# EAGLE library part LTC-4724JR (library 0000 - @rsandor parts)
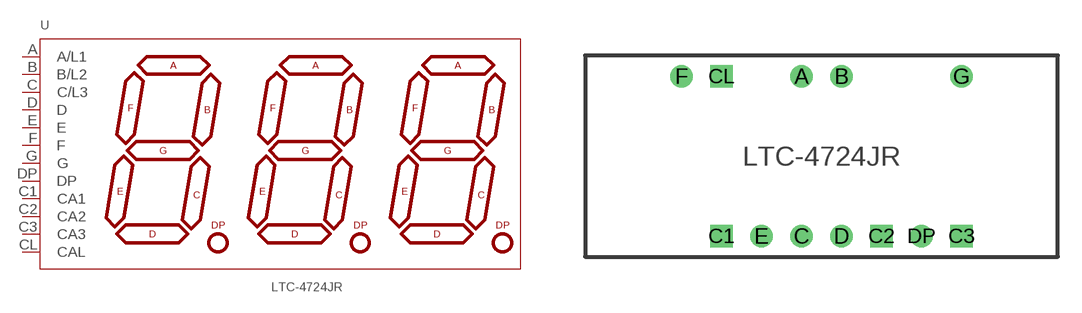
[diagram p2: symbol with the pads of LTC-4724JR; footprint LTC-4724JR]

Designator prefix -

## LTC-4724JR  [LTC-4724JR]
A  A/L1
B  B/L2
C  C/L3
C1  CA1
C2  CA2
C3  CA3
CL  CAL
D  D
DP  DP
E  E
F  F
G  G

## Footprint LTC-4724JR (pad centres in mm)
drill 0.75 pad 1.422: A -1.27,5.08; B 1.27,5.08; C -1.27,-5.08; D 1.27,-5.08; DP 6.35,-5.08; E -3.81,-5.08; F -8.89,5.08; G 8.89,5.08
drill 0.75 pad 1.422 square: C1 -6.35,-5.08; C2 3.81,-5.08; C3 8.89,-5.08; CL -6.35,5.08